# EAGLE library part 6N137 (library sonos_library)
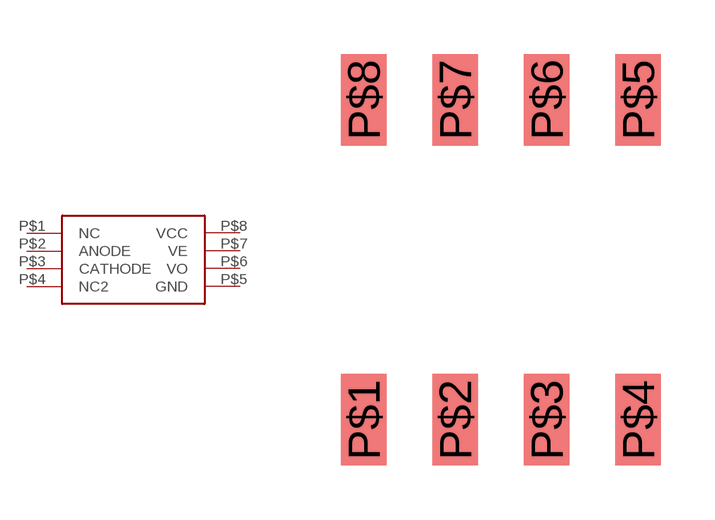
[diagram p2: symbol with the pads of 8_SOIC; footprint 8_SOIC]

Designator prefix -

## 6N137  [8_SOIC]
P$1  NC
P$2  ANODE
P$3  CATHODE
P$4  NC2
P$5  GND
P$6  VO
P$7  VE
P$8  VCC

## Footprint 8_SOIC (pad centres in mm)
smd 1.27 x 2.54: P$1 0,-2.54; P$2 2.54,-2.54; P$3 5.08,-2.54; P$4 7.62,-2.54; P$5 7.62,6.35; P$6 5.08,6.35; P$7 2.54,6.35; P$8 0,6.35